# Altium footprint library PcbLib1.PcbLib: 6 footprints
Each footprint in its own frame and in the unit in brackets; x right, y up, seen from the top. Pads: shape width x height; smd on the part's side, far side on the other; paste and mask are expansions set on the pad; w line width, h text height; cw(c..) or ccw(c..) is an arc to the next point about the centre after c.
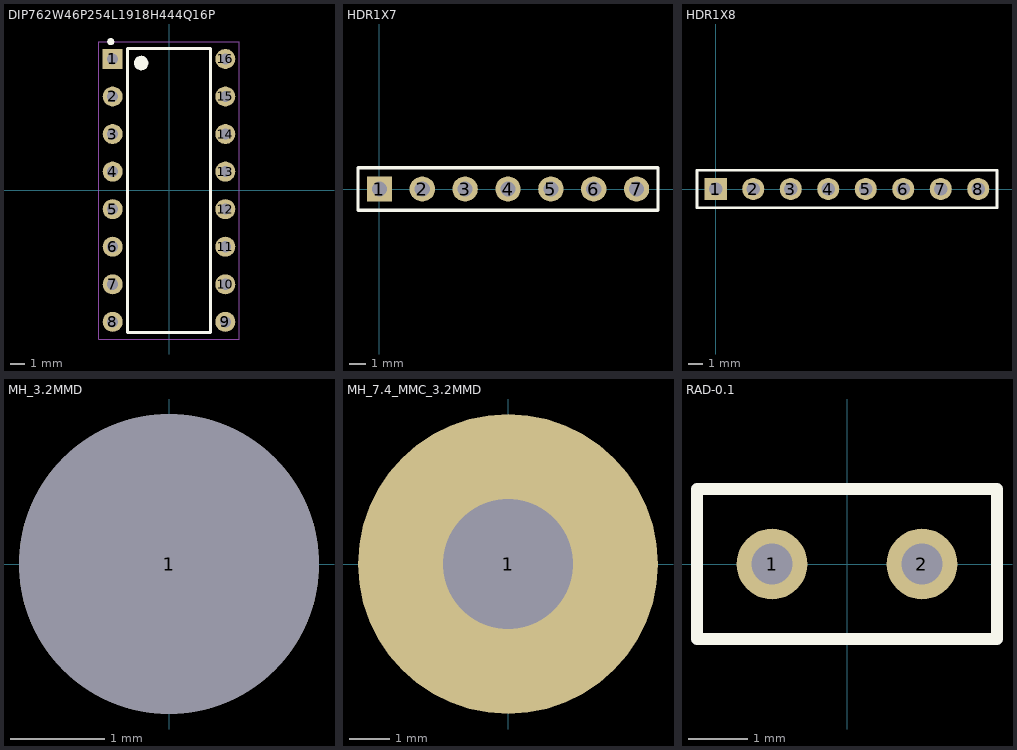
[diagram p0: the footprints below, top view; thin cyan lines are the x and y axes]

## DIP762W46P254L1918H444Q16P [mm]
pads (16):
  rect 1.35x1.35 hole 0.75: 1(-3.81,8.89)
  round 1.35 hole 0.75: 2(-3.81,6.35) 3(-3.81,3.81) 4(-3.81,1.27) 5(-3.81,-1.27) 6(-3.81,-3.81) 7(-3.81,-6.35) 8(-3.81,-8.89) 9(3.81,-8.89) 10(3.81,-6.35) 11(3.81,-3.81) 12(3.81,-1.27) 13(3.81,1.27) 14(3.81,3.81) 15(3.81,6.35) 16(3.81,8.89)
Top Overlay:
  circle w0.127: c-1.88,8.611 r0.432
  circle w0.127: c-1.88,8.611 r0.342
  circle w0.127: c-1.88,8.611 r0.27
  circle w0.127: c-1.88,8.611 r0.18
  circle w0.127: c-1.854,8.585 r0.08
  circle w0.127: c-1.956,8.712 r0.148
  circle w0.127: c-1.981,8.585 r0.144
  circle w0.127: c-3.937,10.058 r0.18
  circle w0.127: c-3.937,10.084 r0.114
  circle w0.127: c-3.937,10.084 r0.057
  lines w0.2: -2.8,-9.6 2.8,-9.6 2.8,9.6 -2.8,9.6 -2.8,-9.6
Mechanical 15:
  lines w0.05: -4.75,-10.05 4.75,-10.05 4.75,10.05 -4.75,10.05 -4.75,-10.05
3D body "DIP16.STEP": height 4.7, standoff -2.6, extent -3.935,-9.98 3.935,9.98

## HDR1X7 [mm] "Connector; Header; 7 Position"
pads (7):
  rect 1.5x1.5 hole 0.9: 1(0,0)
  round 1.5 hole 0.9: 2(2.54,0) 3(5.08,0) 4(7.62,0) 5(10.16,0) 6(12.7,0) 7(15.24,0)
Top Overlay:
  lines w0.2: -1.27,-1.27 -1.27,1.27 16.51,1.27 16.51,-1.27 -1.27,-1.27
3D body "Pin Header 1x7 TH Pitch 2.54mm.stp": height 9.5, standoff -3.2, extent -1.27,-1.27 16.51,1.27

## HDR1X8 [mm] "Connector; Header; 8 Position"
pads (8):
  rect 1.5x1.5 hole 0.9: 1(0,0)
  round 1.5 hole 0.9: 2(2.54,0) 3(5.08,0) 4(7.62,0) 5(10.16,0) 6(12.7,0) 7(15.24,0) 8(17.78,0)
Top Overlay:
  lines w0.2: -1.27,-1.27 19.05,-1.27 19.05,1.27 -1.27,1.27 -1.27,-1.27
3D body "Pin Header 1x8 TH Pitch 2.54mm.stp": height 9.5, standoff -3.2, extent -1.27,-1.27 19.05,1.27

## MH_3.2MMD [mm]
pads (1):
  round 3.2 hole 3.2 unplated: 1(0,0)

## MH_7.4_MMC_3.2MMD [mm] "Mounting Hole 7.4mm Diameter, 3.2mm Drill"
pads (1):
  round 7.4 hole 3.2: 1(0,0)

## RAD-0.1 [mm] "Radial Cap, Thru-Hole; 2 Leads; 0.1 in Pin Spacing"
pads (2):
  round 1.2 hole 0.7: 1(-1.27,0) 2(1.27,0)
Top Overlay:
  lines w0.2: -2.54,-1.27 2.54,-1.27 2.54,1.27 -2.54,1.27 -2.54,-1.27
3D body "10pF Ceramic Disc 2.SLDPRT": height 9.35, standoff -4.68, extent -2.35,-1.25 2.349,1.25